# EAGLE library part LT1765 (library omc-archive)
Switching Regulator LT1765 Datasheet <http://cds.linear.com/docs/Datasheet/1765fd.pdf>
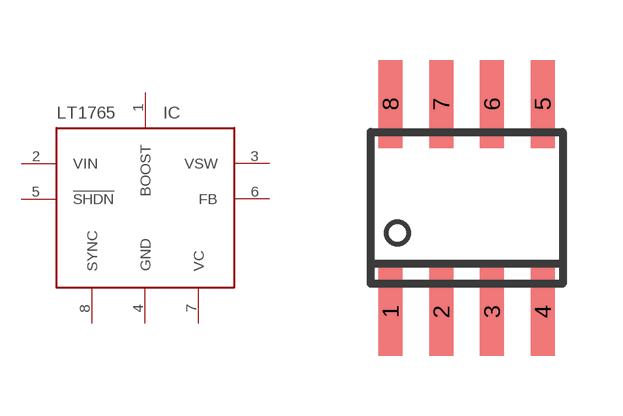
[diagram p2: symbol with the pads of SO8; footprint SO8]

Designator prefix IC

## LT1765ES8  [SO8]
1  BOOST  pwr
2  VIN  in
3  VSW  out
4  GND  pwr
5  !SHDN  hiz
6  FB  in
7  VC  in
8  SYNC  in

## Footprint SO8 (pad centres in mm)
8-Lead Small Outline IC
smd 0.6 x 2.2: 1 -1.905,-2.6; 2 -0.635,-2.6; 3 0.635,-2.6; 4 1.905,-2.6; 5 1.905,2.6; 6 0.635,2.6; 7 -0.635,2.6; 8 -1.905,2.6